# EAGLE library part GY-521 (library gy-521)
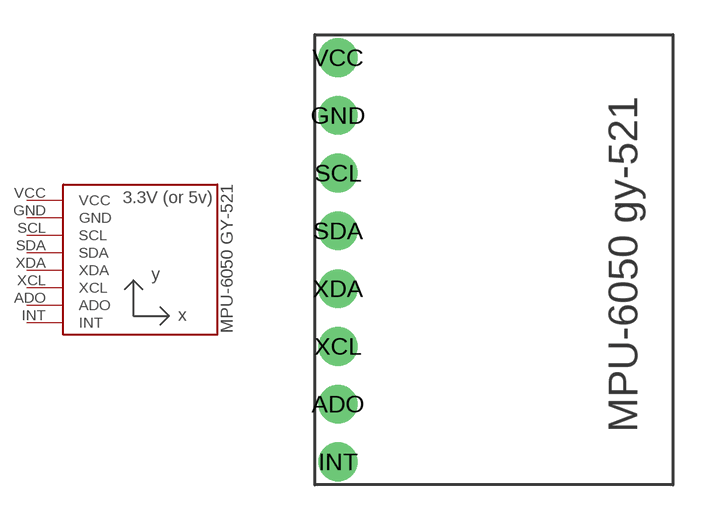
[diagram p0: symbol with the pads of GY-521; footprint GY-521]

Designator prefix U

## GY-521MPU6050  [GY-521]
ADO  ADO
GND  GND
INT  INT
SCL  SCL
SDA  SDA
VCC  VCC
XCL  XCL
XDA  XDA

## Footprint GY-521 (pad centres in mm)
drill 1 pad 1.676: ADO 1,2.5; GND 1,15; INT 1,0; SCL 1,12.5; SDA 1,10; VCC 1,17.5; XCL 1,5; XDA 1,7.5